# EAGLE library part DIP-40 (library stamp)
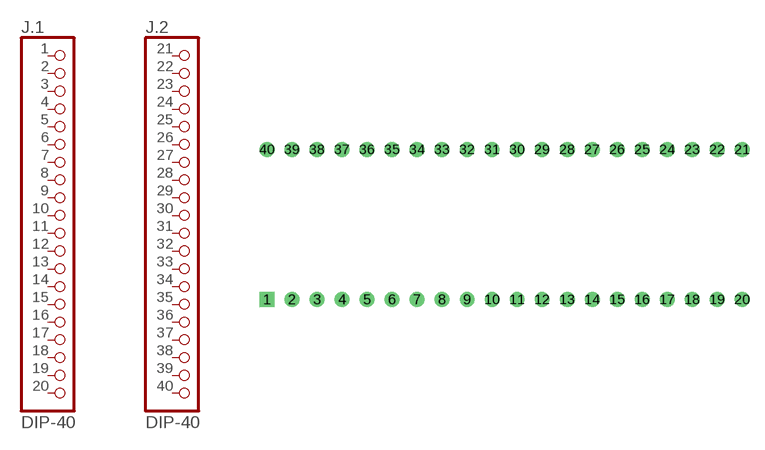
[diagram p2: symbol with the pads of DIP-40; footprint DIP-40]

Designator prefix J; gates .1=PINHD20 .2=PINHD20

## DIP-40  [DIP-40]
1  .1:1  pas
2  .1:2  pas
3  .1:3  pas
4  .1:4  pas
5  .1:5  pas
6  .1:6  pas
7  .1:7  pas
8  .1:8  pas
9  .1:9  pas
10  .1:10  pas
11  .1:11  pas
12  .1:12  pas
13  .1:13  pas
14  .1:14  pas
15  .1:15  pas
16  .1:16  pas
17  .1:17  pas
18  .1:18  pas
19  .1:19  pas
20  .1:20  pas
21  .2:1  pas
22  .2:2  pas
23  .2:3  pas
24  .2:4  pas
25  .2:5  pas
26  .2:6  pas
27  .2:7  pas
28  .2:8  pas
29  .2:9  pas
30  .2:10  pas
31  .2:11  pas
32  .2:12  pas
33  .2:13  pas
34  .2:14  pas
35  .2:15  pas
36  .2:16  pas
37  .2:17  pas
38  .2:18  pas
39  .2:19  pas
40  .2:20  pas

## Footprint DIP-40 (pad centres in mm)
drill 1 square: 1 -24.13,-7.62
drill 1: 2 -21.59,-7.62; 3 -19.05,-7.62; 4 -16.51,-7.62; 5 -13.97,-7.62; 6 -11.43,-7.62; 7 -8.89,-7.62; 8 -6.35,-7.62; 9 -3.81,-7.62; 10 -1.27,-7.62; 11 1.27,-7.62; 12 3.81,-7.62; 13 6.35,-7.62; 14 8.89,-7.62; 15 11.43,-7.62; 16 13.97,-7.62; 17 16.51,-7.62; 18 19.05,-7.62; 19 21.59,-7.62; 20 24.13,-7.62; 21 24.13,7.62; 22 21.59,7.62; 23 19.05,7.62; 24 16.51,7.62; 25 13.97,7.62; 26 11.43,7.62; 27 8.89,7.62; 28 6.35,7.62; 29 3.81,7.62; 30 1.27,7.62; 31 -1.27,7.62; 32 -3.81,7.62; 33 -6.35,7.62; 34 -8.89,7.62; 35 -11.43,7.62; 36 -13.97,7.62; 37 -16.51,7.62; 38 -19.05,7.62; 39 -21.59,7.62; 40 -24.13,7.62